# EAGLE library part CON_ATX_PWR (library dp_devices)
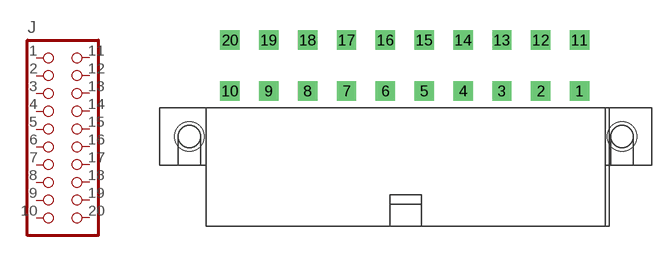
[diagram p6: symbol with the pads of CON_ATX_PWR_90DEG; footprint CON_ATX_PWR_90DEG]

Designator prefix J

## CON_ATX_PWR-90DEG  [CON_ATX_PWR_90DEG]
1  1  pas
2  3  pas
3  5  pas
4  7  pas
5  9  pas
6  11  pas
7  13  pas
8  15  pas
9  17  pas
10  19  pas
11  2  pas
12  4  pas
13  6  pas
14  8  pas
15  10  pas
16  12  pas
17  14  pas
18  16  pas
19  18  pas
20  20  pas

## Footprint CON_ATX_PWR_90DEG (pad centres in mm)
place with 9.7mm spacing from the edge of the board
drill 1.4 square: 1 18.8,4.93; 2 14.6,4.93; 3 10.4,4.93; 4 6.2,4.93; 5 2,4.93; 6 -2.2,4.93; 7 -6.4,4.93; 8 -10.6,4.93; 9 -14.8,4.93; 10 -19,4.93; 11 18.8,10.43; 12 14.6,10.43; 13 10.4,10.43; 14 6.2,10.43; 15 2,10.43; 16 -2.2,10.43; 17 -6.4,10.43; 18 -10.6,10.43; 19 -14.8,10.43; 20 -19,10.43
hole 3.2 at 23.4,0
hole 3.2 at -23.4,0